# Altium schematic symbol library SCH - CONNECTORS - WURTH - 7461001.SCHLIB: 1 symbol
Pins are listed as number, name and electrical type; pins without a type are passive.

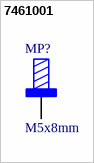
[diagram p0: symbol 7461001]

## 7461001
designator MP?, comment M5x8mm
WP-SHFU Press-Fit with External thread, full plain, 7x7mm, 9 pins, M5x8mm, 130A; Part Number: 7461001; Pin Number: 9; Thread Length: 8mm; Thread: M5; Surface: Tin; ComponentLink1Description: Manufacturer; ComponentLink1URL: http://www.we-online.de; ComponentLink2Description: Datasheet; ComponentLink2URL: https://katalog.we-online.com/em/datasheet/7461001.pdf; Operating Temperature: -55 to +150degC; Height: 12mm; Material: Brass; Packaging: Bulk; Mounting Technology: Press-Fit; Rated Current: 130A; Publisher: Wurth Elektronik; Published Date: September 2019; Size: 7x7mm
pins: 1